# Altium integrated library ATSAMD21G18A-AU.IntLib: 1 symbol
Pins are listed as number, name and electrical type; pins without a type are passive.

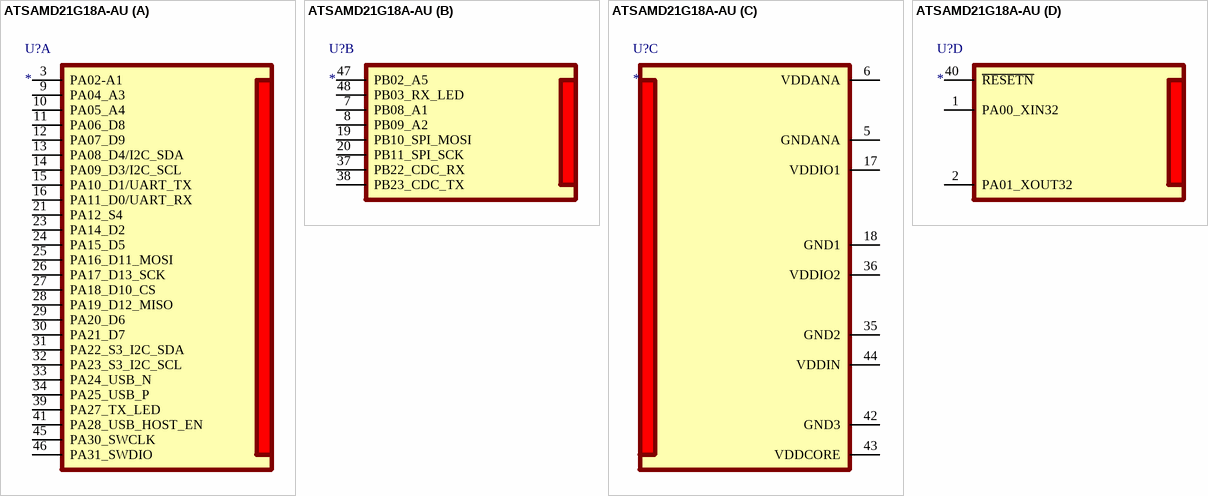
[diagram p0: symbol ATSAMD21G18A-AU]

## ATSAMD21G18A-AU
designator U?
footprint QFP50P900X900X120-48N
part A pins: 3 PA02-A1, 9 PA04_A3, 10 PA05_A4, 11 PA06_D8, 12 PA07_D9, 13 PA08_D4/I2C_SDA, 14 PA09_D3/I2C_SCL, 15 PA10_D1/UART_TX, 16 PA11_D0/UART_RX, 21 PA12_S4, 23 PA14_D2, 24 PA15_D5, 25 PA16_D11_MOSI, 26 PA17_D13_SCK, 27 PA18_D10_CS, 28 PA19_D12_MISO, 29 PA20_D6, 30 PA21_D7, 31 PA22_S3_I2C_SDA, 32 PA23_S3_I2C_SCL, 33 PA24_USB_N, 34 PA25_USB_P, 39 PA27_TX_LED, 41 PA28_USB_HOST_EN, 45 PA30_SWCLK, 46 PA31_SWDIO
part B pins: 7 PB08_A1, 8 PB09_A2, 19 PB10_SPI_MOSI, 20 PB11_SPI_SCK, 37 PB22_CDC_RX, 38 PB23_CDC_TX, 47 PB02_A5, 48 PB03_RX_LED
part C pins: 5 GNDANA, 6 VDDANA, 17 VDDIO1, 18 GND1, 35 GND2, 36 VDDIO2, 42 GND3, 43 VDDCORE, 44 VDDIN
part D pins: 1 PA00_XIN32, 2 PA01_XOUT32, 40 ~{RESETN}